# Altium footprint library VBT6.PcbLib: 26 footprints (part 1 of 2)
Each footprint in its own frame and in the unit in brackets; x right, y up, seen from the top. Pads: shape width x height; smd on the part's side, far side on the other; paste and mask are expansions set on the pad; w line width, h text height; cw(c..) or ccw(c..) is an arc to the next point about the centre after c.
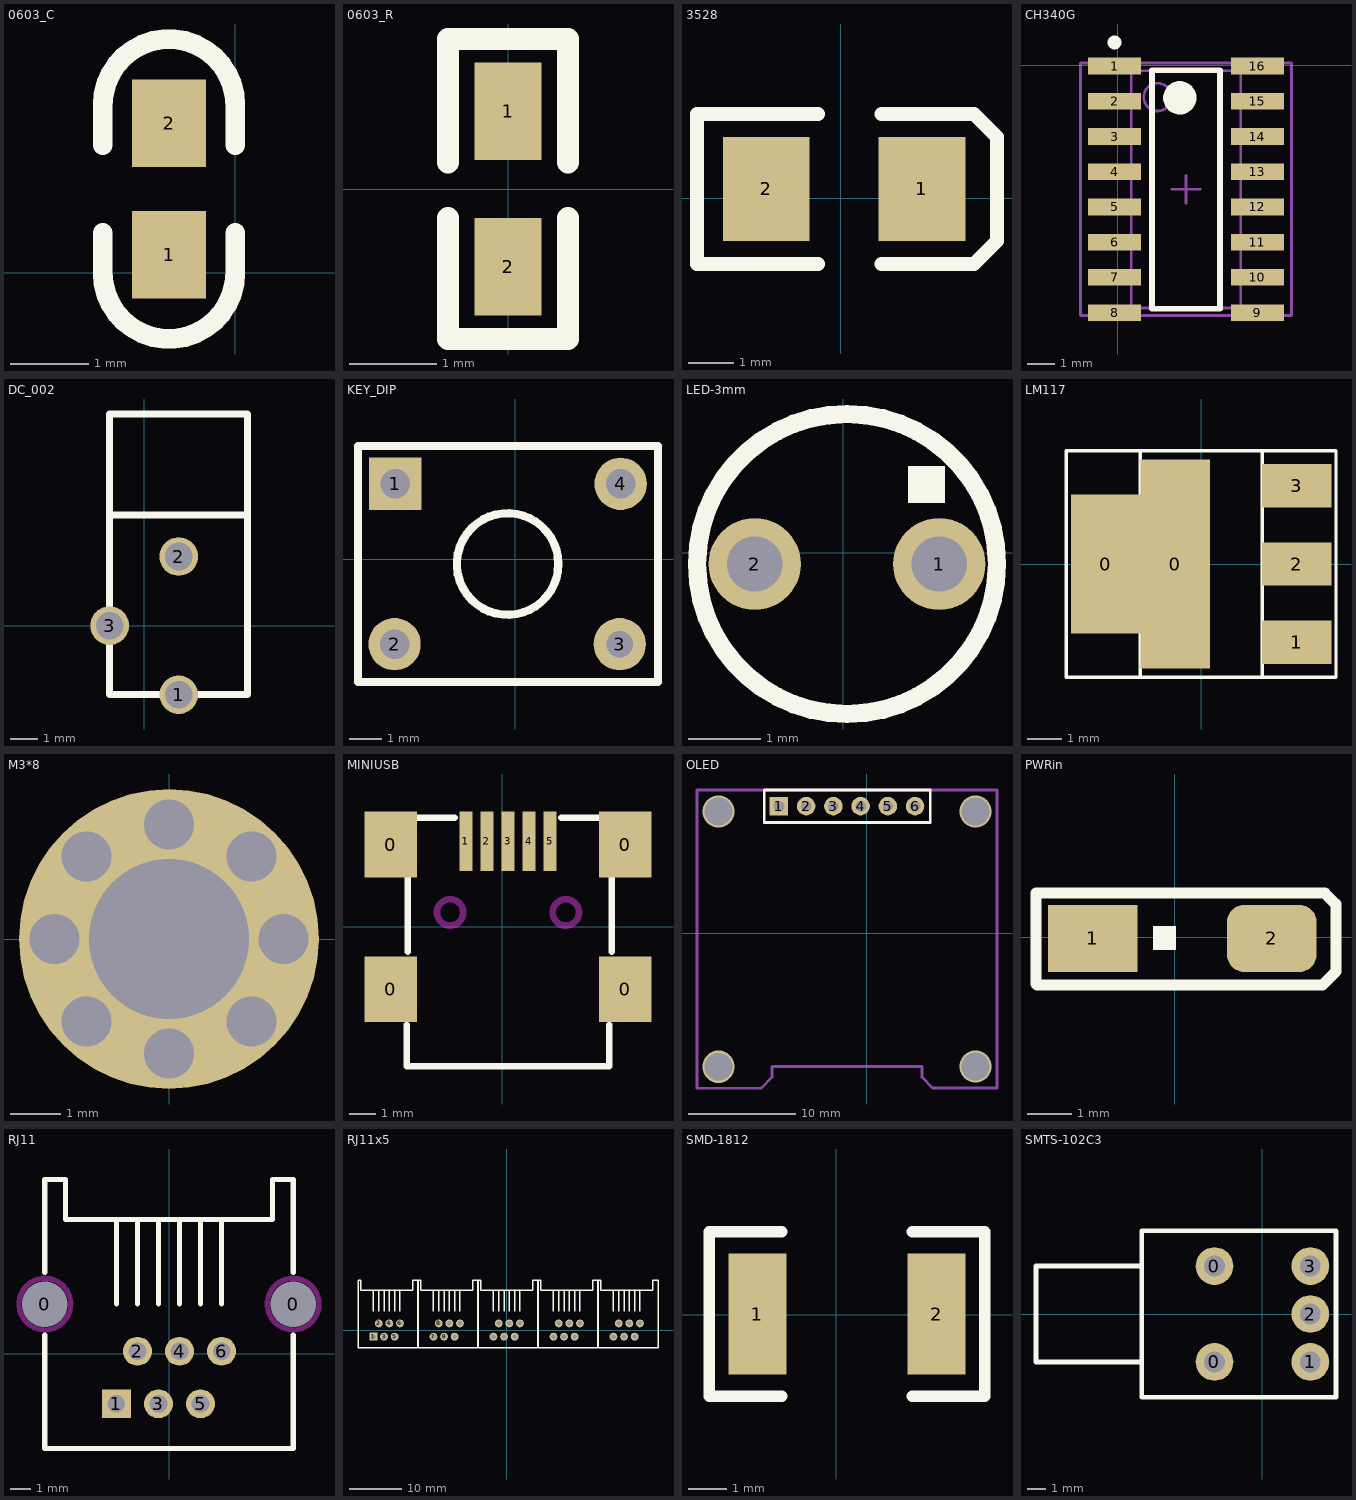
[diagram p0: the footprints below, top view; thin cyan lines are the x and y axes]

## 0603_C [mil]
pads (2):
  rect 37x44 smd: 1(-33.24,9) 2(-33.24,75)
Top Overlay:
  lines w10: -66.48,20 -66.48,0 ccw(c-33.24,0) 0,0 0,20 ; -66.48,64 -66.48,84 cw(c-33.24,84) 0,84 0,64

## 0603_R [mil]
pads (2):
  rect 30x44 smd: 1(0,35) 2(0,-35)
Top Overlay:
  lines w10: -27,-13 -27,-67.5 27,-67.5 27,-13 ; -27,12 -27,67.5 27,67.5 27,12
3D body: height 20.79, standoff 0, extent -19.45,-52.22 19.92,50.14

## 3528 [mil]
pads (2):
  rect 75x90 smd: 1(70.5,8) 2(-64.5,8)
Top Overlay:
  lines w12: -19.5,-57 -124.5,-57 -124.5,73 -19.5,73 ; 35.5,-57 115.5,-57 135.5,-37 135.5,53 115.5,73 35.5,73

## CH340G [mm]
pads (16):
  rect 1.9x0.6 smd: 1(-0.111,-0.025) 2(-0.111,-1.295) 3(-0.111,-2.565) 4(-0.111,-3.835) 5(-0.111,-5.105) 6(-0.111,-6.375) 7(-0.111,-7.645) 8(-0.111,-8.915) 9(5.039,-8.915) 10(5.039,-7.645) 11(5.039,-6.375) 12(5.039,-5.105) 13(5.039,-3.835) 14(5.039,-2.565) 15(5.039,-1.295) 16(5.039,-0.025)
Top Overlay:
  circle w0.6: c2.239,-1.17 r0.3
  circle w0.25: c-0.111,0.825 r0.125
  lines w0.2: 1.239,-8.77 3.689,-8.77 3.689,-0.17 1.239,-0.17 1.239,-8.77
Mechanical 13:
  circle w0.1: c1.439,-1.145 r0.5
  lines w0.1: 0.489,-8.745 4.439,-8.745 4.439,-0.195 0.489,-0.195 0.489,-8.745
Mechanical 15:
  lines w0.1: 1.964,-4.47 2.964,-4.47 ; 2.464,-4.97 2.464,-3.97 ; -1.336,-9.02 6.264,-9.02 6.264,0.08 -1.336,0.08 -1.336,-9.02
3D body: height 1.7, standoff 0.16, extent 0.489,-8.745 4.439,-0.195

## DC_002 [mm]
pads (3):
  round 1.4 hole 1: 1(1.25,-2.5) 2(1.25,2.5) 3(-1.25,0)
Top Overlay:
  lines w0.254: -1.25,4 3.75,4 ; -1.25,-2.5 -1.25,7.66 3.75,7.66 3.75,-2.5 -1.25,-2.5

## KEY_DIP [mm]
pads (4):
  rect 1.6x1.6 hole 0.9: 1(-3.658,2.299)
  round 1.6 hole 0.9: 2(-3.683,-2.603) 4(3.226,2.299)
  round 1.6 hole 0.8: 3(3.2,-2.603)
Top Overlay:
  circle w0.254: c-0.229,-0.152 r1.553
  lines w0.254: -4.801,-3.759 4.369,-3.759 4.369,3.454 -4.801,3.454 -4.801,-3.759

## LED-3mm [mil]
pads (2):
  round 50 hole 30: 1(52,-6) 2(-48,-6)
Top Overlay:
  circle w10: c2,-6 r81.3
  rectangle: 35,27 55,47

## LM117 [mil]
pads (5):
  rect 80x160 smd: 0(-110,0)
  rect 80x240 smd: 0(-30,0)
  rect 80x50 smd: 1(110,-90) 2(110,0) 3(110,90)
Top Overlay:
  lines w4: -70,-130 -70,130 ; 70,-130 70,130 ; -155,-130 155,-130 155,130 -155,130 -155,-130

## M3*8 [mm]
pads (18):
  round 1 hole 1: ""(-2.286,0) ""(-2.286,0) ""(-1.651,-1.651) ""(-1.651,-1.651) ""(-1.651,1.651) ""(-1.651,1.651) ""(0,-2.286) ""(0,-2.286) ""(0,2.286) ""(0,2.286) ""(1.651,-1.651) ""(1.651,-1.651) ""(1.651,-1.651) ""(1.651,1.651) ""(1.651,1.651) ""(2.286,0) ""(2.286,0)
  round 6 hole 3.2: ""(0,0)

## MINIUSB [mm]
pads (9):
  rect 2x2.5 smd: 0(-4.223,-2.374) 0(-4.223,3.126) 0(4.677,-2.374) 0(4.677,3.126)
  rect 0.5x2.25 smd: 1(-1.373,3.251) 2(-0.573,3.251) 3(0.227,3.251) 4(1.027,3.251) 5(1.827,3.251)
Top Overlay:
  lines w0.254: -3.623,-3.734 -3.623,-5.304 4.077,-5.304 4.077,-3.734 ; -3.583,-0.94 -3.583,1.854 ; -3.202,4.14 -1.805,4.14 ; 2.259,4.14 3.656,4.14 ; 4.164,-0.94 4.164,1.854
Keep-Out Layer:
  circle w0.254: c2.427,0.546 r0.5
  circle w0.254: c-1.973,0.546 r0.5

## OLED [mil]
pads (6):
  rect 67.99x67.99 hole 39: 1(-322.62,467.52)
  round 67.99 hole 39: 2(-222.62,467.52) 3(-122.62,467.52) 4(-22.62,467.52) 5(77.38,467.52)
  round 68 hole 39: 6(177.38,467.52)
via 399.82,447.83 diameter 118.11 hole 102.36
via 399.82,-489.17 diameter 118.11 hole 102.36
via -545.06,-490.12 diameter 118.11 hole 102.36
via -545.06,447.83 diameter 118.11 hole 102.36
Top Overlay:
  lines w10: -376.62,407.52 233.38,407.52 233.38,526.57 -374.56,526.57 -376.62,524.52 -376.62,407.52
Mechanical 15:
  lines w10: -387.58,-568.86 -623.8,-568.86 -623.8,526.57 478.56,526.57 ; -387.58,-567.91 -348.21,-528.54 -348.21,-489.17 202.97,-489.17 202.97,-528.54 242.34,-567.91 478.56,-567.91 478.56,527.52

## PWRin [mm]
pads (2):
  rect 2x1.5 smd: 1(-1.829,-0.025)
  rrect50% 2x1.5 smd: 2(2.171,-0.025)
Top Overlay:
  rectangle: -0.483,-0.279 0.025,0.254
  lines w0.254: -3.099,-1.041 -3.073,-1.067 0.914,-1.067 3.302,-1.067 3.607,-0.762 3.607,0.737 3.353,0.991 -3.099,0.991 -3.099,-0.025 -3.099,-1.041

## RJ11 [mm]
pads (8):
  round 2.1 hole 2.2 unplated: 0(-6,2.41) 0(6,2.41)
  rect 1.397x1.397 hole 0.85: 1(-2.54,-2.41)
  round 1.397 hole 0.85: 2(-1.524,0.13) 3(-0.508,-2.41) 4(0.508,0.13) 5(1.524,-2.41) 6(2.54,0.13)
Top Overlay:
  lines w0.254: -6,0.906 -6,-4.57 6,-4.57 6,0.906 ; -6,3.954 -6,8.43 -5,8.43 -5,6.494 5,6.494 5,8.43 6,8.43 6,3.954 ; -2.54,2.43 -2.54,6.494 ; -1.524,2.43 -1.524,6.494 ; -0.508,2.43 -0.508,6.494 ; 0.508,2.43 0.508,6.494 ; 1.524,2.43 1.524,6.494 ; 2.54,2.43 2.54,6.494
Keep-Out Layer:
  circle w0.254: c6,2.41 r1.25
  circle w0.254: c-6,2.41 r1.25

## RJ11x5 [mm]
pads (30):
  rect 1.5x1.5 hole 0.9: 1(-25.552,-1.27)
  round 1.5 hole 0.9: 2(-24.536,1.27) 3(-23.52,-1.27) 4(-22.504,1.27) 5(-21.488,-1.27) 6(-20.472,1.27) 7(-14.046,-1.27) 8(-13.03,1.27) 9(-12.014,-1.27) 10(-10.998,1.27) 11(-9.982,-1.27) 12(-8.966,1.27) 13(-2.54,-1.27) 14(-1.524,1.27) 15(-0.508,-1.27) 16(0.508,1.27) 17(1.524,-1.27) 18(2.54,1.27) 19(8.966,-1.27) 20(9.982,1.27) 21(10.998,-1.27) 22(12.014,1.27) 23(13.03,-1.27) 24(14.046,1.27) 25(20.472,-1.27) 26(21.488,1.27) 27(22.504,-1.27) 28(23.52,1.27) 29(24.536,-1.27) 30(25.552,1.27)
Top Overlay:
  lines w0.254: -25.552,3.57 -25.552,7.634 ; -24.536,3.57 -24.536,7.634 ; -23.52,3.57 -23.52,7.634 ; -22.504,3.57 -22.504,7.634 ; -21.488,3.57 -21.488,7.634 ; -20.472,3.57 -20.472,7.634 ; -14.046,3.57 -14.046,7.634 ; -13.03,3.57 -13.03,7.634 ; -12.014,3.57 -12.014,7.634 ; -10.998,3.57 -10.998,7.634 ; -9.982,3.57 -9.982,7.634 ; -8.966,3.57 -8.966,7.634 ; -2.54,3.57 -2.54,7.634 ; -1.524,3.57 -1.524,7.634 ; -0.508,3.57 -0.508,7.634 ; 0.508,3.57 0.508,7.634 ; 1.524,3.57 1.524,7.634 ; 2.54,3.57 2.54,7.634 ; 8.966,3.57 8.966,7.634 ; 9.982,3.57 9.982,7.634 ; 10.998,3.57 10.998,7.634 ; 12.014,3.57 12.014,7.634 ; 13.03,3.57 13.03,7.634 ; 14.046,3.57 14.046,7.634 ; 20.472,3.57 20.472,7.634 ; 21.488,3.57 21.488,7.634 ; 22.504,3.57 22.504,7.634 ; 23.52,3.57 23.52,7.634 ; 24.536,3.57 24.536,7.634 ; 25.552,3.57 25.552,7.634 ; -28.512,-3.43 -17.012,-3.43 -17.012,2.046 -17.012,5.094 -17.012,9.57 -18.012,9.57 -18.012,7.634 -28.012,7.634 -28.012,9.57 -28.512,9.57 -28.512,5.594 -28.512,2.546 -28.512,-3.43 ; -17.006,-3.43 -5.506,-3.43 -5.506,2.046 -5.506,5.094 -5.506,9.57 -6.506,9.57 -6.506,7.634 -16.506,7.634 -16.506,9.57 -17.006,9.57 -17.006,5.594 -17.006,2.546 -17.006,-3.43 ; -5.5,-3.43 6,-3.43 6,2.046 6,5.094 6,9.57 5,9.57 5,7.634 -5,7.634 -5,9.57 -5.5,9.57 -5.5,5.594 -5.5,2.546 -5.5,-3.43 ; 6.006,-3.43 17.506,-3.43 17.506,2.046 17.506,5.094 17.506,9.57 16.506,9.57 16.506,7.634 6.506,7.634 6.506,9.57 6.006,9.57 6.006,5.594 6.006,2.546 6.006,-3.43 ; 17.512,-3.43 29.012,-3.43 29.012,2.046 29.012,5.094 29.012,9.57 28.012,9.57 28.012,7.634 18.012,7.634 18.012,9.57 17.512,9.57 17.512,5.594 17.512,2.546 17.512,-3.43

## SMD-1812 [mil]
pads (2):
  rect 60x125 smd: 1(-81.5,1) 2(103.5,1)
Top Overlay:
  lines w12: -56.5,-84 -131.5,-84 -131.5,86 -56.5,86 ; 78.5,-84 153.5,-84 153.5,86 78.5,86

## SMTS-102C3 [mm]
pads (5):
  round 2 hole 1.1: 0(-2.54,-2.54) 0(-2.54,2.54) 1(2.54,-2.54) 2(2.54,0) 3(2.54,2.54)
Top Overlay:
  lines w0.254: -6.4,-2.54 -12,-2.54 -12,2.54 -6.4,2.54 ; -6.4,-4.415 3.9,-4.415 3.9,4.415 -3.885,4.415 -6.4,4.415 -6.4,-4.415
  text "." at -7.606,-3.785 h5.59